# Altium footprint library PcbLib2.PcbLib: 3 footprints
Each footprint in its own frame and in the unit in brackets; x right, y up, seen from the top. Pads: shape width x height; smd on the part's side, far side on the other; paste and mask are expansions set on the pad; w line width, h text height; cw(c..) or ccw(c..) is an arc to the next point about the centre after c.
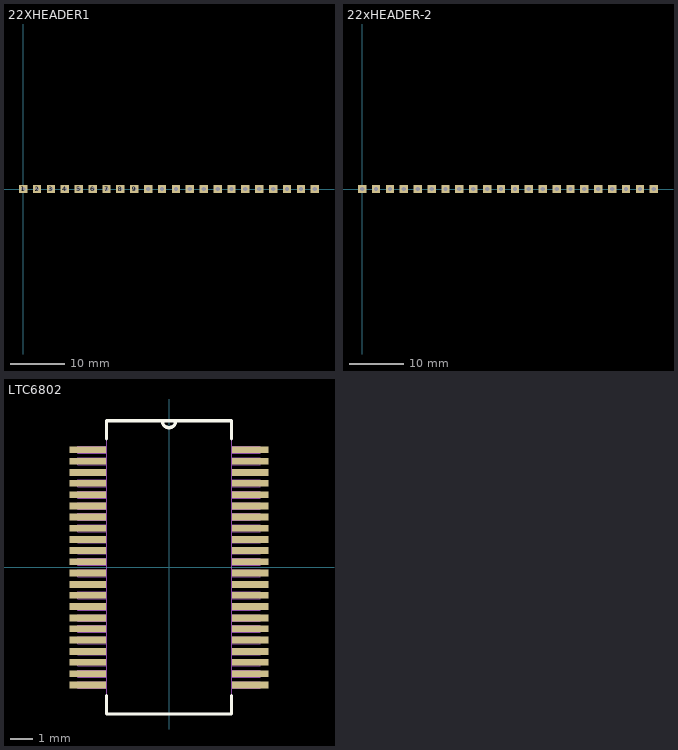
[diagram p0: the footprints below, top view; thin cyan lines are the x and y axes]

## 22XHEADER1 [mil]
pads (22):
  rect 60x60 hole 31.5 square: 1(0,0) 2(100,0) 3(200,0) 4(300,0) 5(400,0) 6(500,0) 7(600,0) 8(700,0) 9(800,0) 10(900,0) 11(1000,0) 12(1100,0) 13(1200,0) 14(1300,0) 15(1400,0) 16(1500,0) 17(1600,0) 18(1700,0) 19(1800,0) 20(1900,0) 21(2000,0) 22(2100,0)

## 22xHEADER-2 [mil]
pads (22):
  rect 60x60 hole 31.5 square: 23(0,0) 24(100,0) 25(200,0) 26(300,0) 27(400,0) 28(500,0) 29(600,0) 30(700,0) 31(800,0) 32(900,0) 33(1000,0) 34(1100,0) 35(1200,0) 36(1300,0) 37(1400,0) 38(1500,0) 39(1600,0) 40(1700,0) 41(1800,0) 42(1900,0) 43(2000,0) 44(2100,0)

## LTC6802 [mil]
pads (44):
  rect 65x12 smd: 1(-143,207) 2(-143,187) 3(-143,167) 4(-143,148) 5(-143,128) 6(-143,108) 7(-143,89) 8(-143,69) 9(-143,49) 10(-143,30) 11(-143,10) 12(-143,-10) 13(-143,-30) 14(-143,-49) 15(-143,-69) 16(-143,-89) 17(-143,-108) 18(-143,-128) 19(-143,-148) 20(-143,-167) 21(-143,-187) 22(-143,-207) 23(143,-207) 24(143,-187) 25(143,-167) 26(143,-148) 27(143,-128) 28(143,-108) 29(143,-89) 30(143,-69) 31(143,-49) 32(143,-30) 33(143,-10) 34(143,10) 35(143,30) 36(143,49) 37(143,69) 38(143,89) 39(143,108) 40(143,128) 41(143,148) 42(143,167) 43(143,187) 44(143,207)
Top Overlay:
  lines w6: -110,-226 -110,-258 110,-258 110,-226 ; -110,226 -110,258 -12,258 ; 110,226 110,258 12,258 ; -12,258 ccw(c0,258) 12,258 ; -12,258 12,258
Mechanical 13:
  drawing of 183 lines, arcs and shapes, not listed